# Altium schematic symbol library Transistors.SchLib: 24 symbols
Pins are listed as number, name and electrical type; pins without a type are passive.

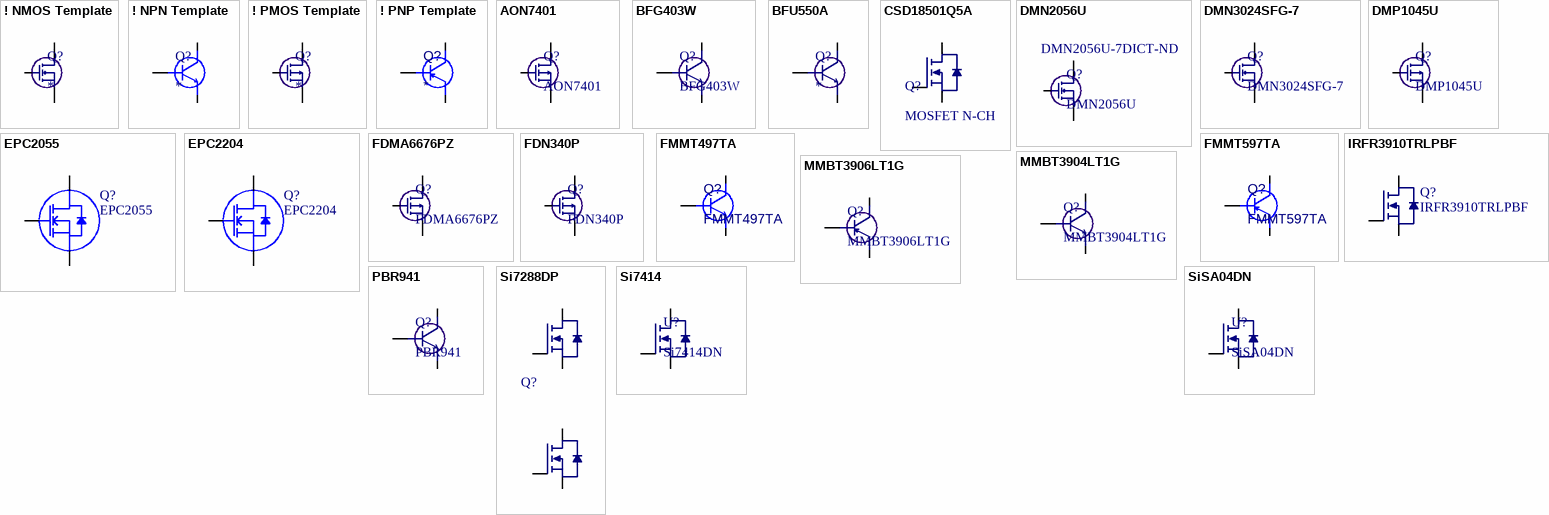
[diagram p0: symbols ! NMOS Template to SiSA04DN]

## ! NMOS Template
designator Q?
Transistor, MOSFET, N-Channel
pins: 1 G, 2 S, 3 D

## ! NPN Template
designator Q?
Transistor, NPN
pins: 1 B, 2 E, 3 C

## ! PMOS Template
designator Q?
Transistor, MOSFET, P-Channel
pins: 1 G, 2 S, 3 D

## ! PNP Template
designator Q?
Transistor, PNP
pins: 1 B, 2 E, 3 C

## AON7401
designator Q?
P-Channel 30V 12A (Ta), 35A (Tc) 3.1W (Ta), 29W (Tc) Surface Mount 8-DFN (3x3); Supplier 1: Digi-Key; Supplier 3: LCSC; Supplier Part Number 3: C124890; Supplier Part Number 1: 785-1302-1-ND
footprint DFN3x3A_8L_EP1_P (AON7401 P-Mos)
pins: D, G, S

## BFG403W
designator Q?
Transistor, NPN, RF, 3mA, 4.5V, 17 GHz Transition Frequency, SOT-343R; Supplier 1: Digi-Key; Supplier Part Number 1: 568-1979-1-ND
footprint SOT343R-Phillips (SOT343, 4-Leads, Body 2.00x2.10mm, Pitch 1.30mm, IPC High Density)
pins: 1 E, 2 B, 3 E, 4 C

## BFU550A
designator Q?
Transistor, NPN, RF, 50mA, 12V, 11 GHz transition frequency; Supplier 1: Digi-Key; Supplier Part Number 1: 568-11514-1-ND
footprint SOT23-Generic (SOT23, 3-Leads, Body 2.92x2.37mm, Pitch 0.95mm, IPC Medium Density)
pins: 1 B, 2 E, 3 C

## CSD18501Q5A
designator Q?, comment MOSFET N-CH
MOSFET N-CH 40V 8SON; Supplier 1: Digi-Key; Supplier Part Number 1: 296-30570-1-ND
footprint SLPS319C (8-PowerTDFN)
pins: 1 S1, 2 S1, 3 S3, 4 G, 5 D2

## DMN2056U
designator Q?  Supplier Part Number 1: DMN2056U-7DICT-ND
MOSFET N-Ch -20V VDSS Enchanced Mosfet 4.2A; Supplier 1: Digi-Key
footprint SOT23-DMN2056 (SOT23, 3-Leads: 1=G, 2=S, 3=D Body 2.92x2.37mm, Pitch 0.95mm, IPC Medium Density)
pins: 1 G, 2 S, 3 D

## DMN3024SFG-7
designator Q?
N-Channel 30 V 7.5A (Ta) 900mW (Ta) Surface Mount PowerDI3333-8; Supplier 1: Digi-Key; Supplier 2: Mouser; Supplier Part Number 1: DMN3024SFG-7DICT-ND; Supplier Part Number 2: 621-DMN3024SFG-7
footprint PowerDI3333-8 (Diodes Inc)
pins: D, G, S

## DMP1045U
designator Q?
Transistor, MOSFET, P-Channel, 12V, 5.2A, 26mOhm; Supplier 1: Digi-Key; Supplier Part Number 1: DMP1045U-7DICT-ND
footprint SOT23-DMN2056 (SOT23, 3-Leads: 1=G, 2=S, 3=D Body 2.92x2.37mm, Pitch 0.95mm, IPC Medium Density)
pins: 1 G, 2 S, 3 D

## EPC2055
designator Q?
GANFET N-CH 40V 29A 3.6mOhm; MFG: EPC; QSGdescript: 40V 29A 3.6mE; MFGPN: EPC2055; Supplier 1: Digi-Key; SchDescript: 40V 29A 3.6mE; Supplier Part Number 1: 917-EPC2055CT-ND
footprint D0133CT44M
pins: 1 G, 2 S (oe), 3 D (oc), 4 S (oe), 5 D (oc), 6 S (oe)

## EPC2204
designator Q?
GASNFET 100V 32A 6mE; MFG: EPC; MFGPN: EPC2204; SchDescript: 100V 32A 6mE; Supplier 1: Digi-Key; Supplier Part Number 1: 917-1223-1-ND
footprint D0133CT44M
pins: 1 G, 2 S (oe), 3 D (oc), 4 S (oe), 5 D (oc), 6 S (oe)

## FDMA6676PZ
designator Q?
P-Channel 30 V 11A (Ta) 2.4W (Ta) Surface Mount 6-MicroFET (2x2); Supplier 3: LCSC; Supplier Part Number 3: C124890; Supplier 1: Digi-Key; Supplier 2: Mouser; Supplier Part Number 1: FDMA6676PZCT-ND; Supplier Part Number 2: 512-FDMA6676PZ
footprint 6-PowerWDFN 2x2 (onsemi 6-MicroFET)
pins: D, G, S

## FDN340P
designator Q?
Transistor, MOSFET, P-Channel, 20V, 2A, 70 mOhm; Supplier 1: Digi-Key; Supplier Part Number 1: FDN340PCT-ND
footprint SOT23-Generic (SOT23, 3-Leads, Body 2.92x2.37mm, Pitch 0.95mm, IPC Medium Density)
pins: 1 G, 2 S, 3 D

## FMMT497TA
designator Q?
TRANS NPN 300V 0.5A SOT-23-3; Supplier 1: DigiKey; Supplier 2: Mouser; Supplier 3: LCSC; Supplier Part Number 1: FMMT497CT-ND; Supplier Part Number 2: 522-FMMT497TA; Supplier Part Number 3: C80781
footprint SOT23-Generic (SOT23, 3-Leads, Body 2.92x2.37mm, Pitch 0.95mm, IPC Medium Density)
pins: 1 B, 2 E, 3 C

## FMMT597TA
designator Q?
Bipolar (BJT) Transistor PNP 300 V 200 mA 75MHz 500 mW Surface Mount SOT-23-3; Supplier 1: DigiKey; Supplier 2: Mouser; Supplier 3: LCSC; Supplier Part Number 1: FMMT597CT-ND; Supplier Part Number 2: 522-FMMT597TA; Supplier Part Number 3: C151596
footprint SOT23-Generic (SOT23, 3-Leads, Body 2.92x2.37mm, Pitch 0.95mm, IPC Medium Density)
pins: 1 B, 2 E, 3 C

## IRFR3910TRLPBF
designator Q?
N-Channel 16A (Tc) 79W (Tc) Surface Mount D-Pak; Supplier 1: Digi-Key; Supplier 2: Mouser; Supplier 3: LCSC; Supplier Part Number 1: IRFR3910TRLPBFCT-ND; Supplier Part Number 2: 942-IRFR3910TRLPBF; Supplier Part Number 3: C148158
footprint DPAK2 IRFR3910 (D-PAK, 3-Pads, Body 6.15x6.65mm (max), IPC Medium Density)
pins: 1 G, 2 D, 3 S

## MMBT3904LT1G
designator Q?
Bipolar (BJT) Transistor NPN 40V 200mA 300MHz 300mW Surface Mount SOT-23-3 (TO-236); I_max: 200mA; V_brkdown: 40V; Supplier 1: Digi-Key; Supplier 2: Mouser; Supplier 3: LCSC; Supplier Part Number 1: MMBT3904LT1GOSDKR-ND; Supplier Part Number 2: 863-MMBT3904LT1G; Supplier Part Number 3: C81464
footprint SOT23-MMBT3904 (SOT23, 3-Leads, Body 2.92x2.37mm, Pitch 0.95mm, IPC Medium Density)
pins: 1 B, 2 E, 3 C

## MMBT3906LT1G
designator Q?
Bipolar (BJT) Transistor PNP 40V 200mA 250MHz 300mW Surface Mount SOT-23-3 (TO-236); Supplier 1: Digi-Key; Supplier 2: Mouser; Supplier 3: LCSC; Supplier Part Number 1: MMBT3906LT1GOSCT-ND; Supplier Part Number 2: 863-MMBT3906LT1G; Supplier Part Number 3: C53444
footprint SOT23-Generic (SOT23, 3-Leads, Body 2.92x2.37mm, Pitch 0.95mm, IPC Medium Density)
pins: 1 B, 2 E, 3 C

## PBR941
designator Q?
Transistor, NPN, RF, 50mA, 10V, 8 GHz Transition Frequency, SOT-23; Supplier 1: Digi-Key; Supplier Part Number 1: 568-1174-1-ND
footprint SOT23-Generic (SOT23, 3-Leads, Body 2.92x2.37mm, Pitch 0.95mm, IPC Medium Density)
pins: 1 B, 2 E, 3 C

## Si7288DP
designator Q?  (value not drawn)
MOSFET 2N-CH 40V 20A PPAK SO-8; Supplier 1: Digi-Key; Supplier Part Number 1: SI7288DP-T1-GE3CT-ND
footprint PowerPAK SO-8
pins: 1 S1, 2 G1, 3 S2, 4 G2, D1, D2

## Si7414
designator U?, comment Si7414DN
N-Channel Enh, 60-V, 5A, 25mOhm, 25nC MOSFET; Manufacturer: Vishay; Last Edited By: Russell Burge; Last Edited On: 3/9/2016; Manufacturer Part Number: Si7414DN; Supplier: Digikey; Supplier Part Number: SI7414DN-T1-E3CT-ND
footprint PPK1212 (Si7414 N-ch MOSFET); pin to pad 1>G 2>S 3>D
footprint PPK1212 (Si7414 N-ch MOSFET)
pins: 1 Gate, 2 Source, 3 Drain

## SiSA04DN
designator U?
N-Channel Enh, 30-V, 40A, 2.15mOhm, 3595pF MOSFET; Manufacturer: Vishay; Last Edited By: Russell Burge; Last Edited On: 3/9/2016; Manufacturer Part Number: SiSA04DN; Supplier: Digikey; Supplier Part Number: SISA04DN-T1-GE3CT-ND
footprint PPK1212 (Si7414 N-ch MOSFET); pin to pad 1>G 2>S 3>D
footprint PPK1212 (Si7414 N-ch MOSFET)
pins: 1 Gate, 2 Source, 3 Drain